# Altium footprint library parts.PCBLIB: 29 footprints (part 1 of 2)
Each footprint in its own frame and in the unit in brackets; x right, y up, seen from the top. Pads: shape width x height; smd on the part's side, far side on the other; paste and mask are expansions set on the pad; w line width, h text height; cw(c..) or ccw(c..) is an arc to the next point about the centre after c.
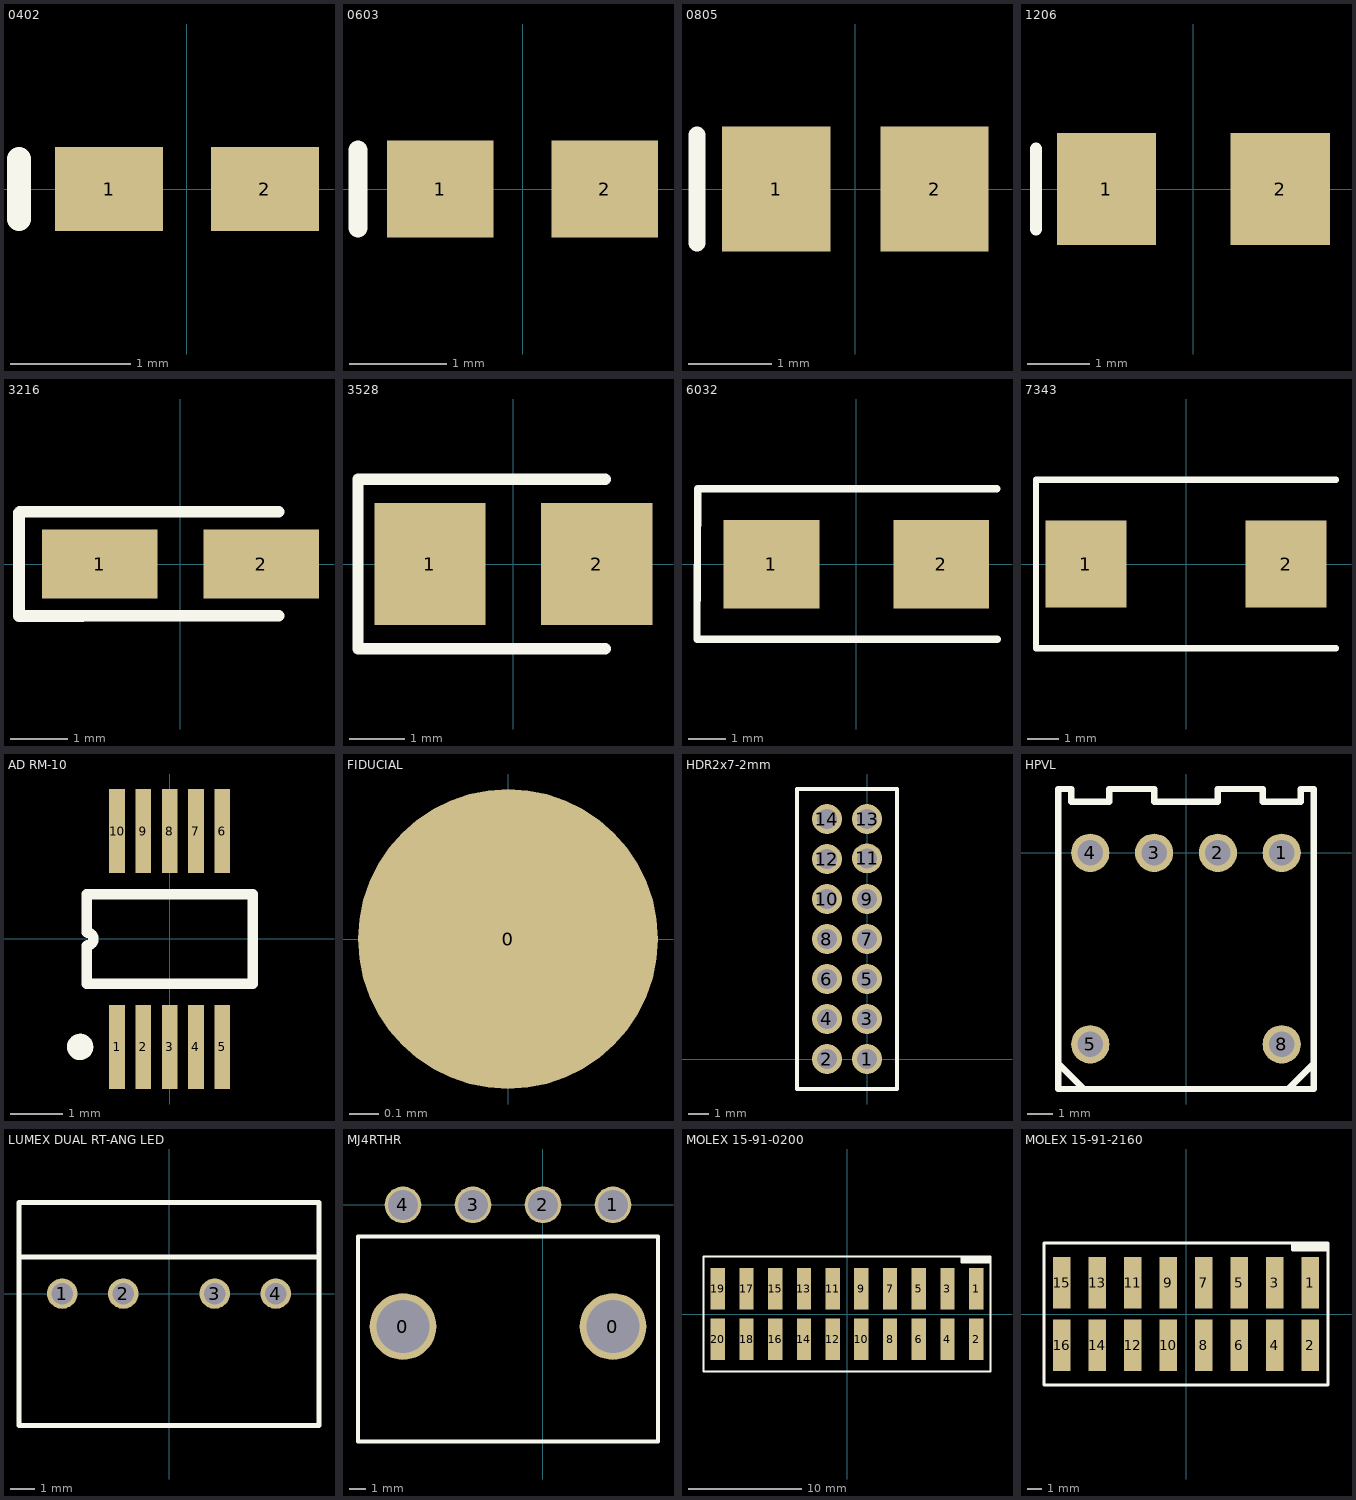
[diagram p0: the footprints below, top view; thin cyan lines are the x and y axes]

## 0402 [mm] "Standard-sized 0402 Passive"
pads (2):
  rect 0.9x0.7 smd: 1(-0.65,0) 2(0.65,0)
Top Overlay:
  lines w0.2: -1.4,-0.25 -1.4,0.25

## 0603 [mm] "Standard-sized 0603 Passive"
pads (2):
  rect 1.1x1 smd: 1(-0.85,0) 2(0.85,0)
Top Overlay:
  lines w0.2: -1.7,-0.4 -1.7,0.4

## 0805 [mm] "Standard-sized 0805 Passive"
pads (2):
  rect 1.3x1.5 smd: 1(-0.95,0) 2(0.95,0)
Top Overlay:
  lines w0.2: -1.9,-0.65 -1.9,0.65

## 1206 [mm] "Standard-sized 1206 Passive"
pads (2):
  rect 1.6x1.8 smd: 1(-1.4,0) 2(1.4,0)
Top Overlay:
  lines w0.2: -2.535,-0.65 -2.535,0.65

## 3216 [mm] "Standard-Sized 3216 Polarized Leadless Cap"
pads (2):
  rect 2x1.2 smd: 1(-1.4,0) 2(1.4,0)
Top Overlay:
  lines w0.2: -2.782,0.901 1.7,0.901 ; -1.7,-0.899 1.7,-0.899
  lines w0.203: -2.794,-0.899 -1.7,-0.899 ; -2.794,-0.889 -2.794,0.889 -2.782,0.901

## 3528 [mm] "Standard-Sized 3528 Polarized Leadless Cap"
pads (2):
  rect 2x2.2 smd: 1(-1.5,0) 2(1.5,0)
Top Overlay:
  lines w0.203: -2.794,-1.524 1.651,-1.524 ; -2.794,-1.5 -2.794,1.5 ; -2.794,1.524 1.651,1.524

## 6032 [mm] "Standard-Sized 7343 Polarized Leadless Cap"
pads (2):
  rect 2.6x2.4 smd: 1(-2.3,0) 2(2.3,0)
Top Overlay:
  lines w0.203: -4.318,-2.032 -4.304,2.046 3.8,2.046 ; -4.294,-2.032 3.81,-2.032

## 7343 [mm] "Standard-Sized 7343 Polarized Leadless Cap"
pads (2):
  rect 2.6x2.8 smd: 1(-3.2,0) 2(3.2,0)
Top Overlay:
  lines w0.203: 4.8,-2.7 -4.8,-2.7 -4.8,2.7 4.8,2.7

## AD RM-10 [mm] "Shrink Small Outline; 10 Leads; Body Width 3 mm; Pitch 0.5 mm"
height 1.1
pads (10):
  rect 0.3x1.6 smd: 1(-1,-2.05) 2(-0.5,-2.05) 3(0,-2.05) 4(0.5,-2.05) 5(1,-2.05) 6(1,2.05) 7(0.5,2.05) 8(0,2.05) 9(-0.5,2.05) 10(-1,2.05)
Top Overlay:
  circle w0.25: c-1.7,-2.05 r0.125
  lines w0.2: -1.575,-0.85 1.575,-0.85 1.575,0.85 -1.575,0.85 -1.575,0.125 cw(c-1.575,0) -1.575,-0.125 -1.575,-0.85

## FIDUCIAL [mil] "Fiducial footprint as recommended by PCBpro"
pads (1):
  round 40 smd paste-20 mask+30: 0(0,0)

## HDR2x7-2mm [mm]
pads (14):
  round 1.5 hole 1: 1(0,0) 2(-2,0) 3(0,2) 4(-2,2) 5(0,4) 6(-2,4) 7(0,6) 8(-2,6) 9(0,8) 10(-2,8) 11(0,10.033) 12(-2,10) 13(0,12) 14(-2,12)
Top Overlay:
  lines w0.2: -3.5,-1.5 1.5,-1.5 1.5,13.5 -3.5,13.5 -3.5,-1.5

## HPVL [mil]
pads (6):
  round 60 hole 40: 1(150,0) 2(50,0) 3(-50,0) 4(-150,0) 5(-150,-300) 8(150,-300)
Top Overlay:
  lines w10: -200,-340 -200,0 ; -200,-330 -160,-370 ; -200,-300 -200,-370 200,-370 200,-340 200,0 200,100 180,100 180,80 120,80 120,100 50,100 50,80 -50,80 -50,100 -120,100 -120,80 -180,80 -180,100 -200,100 -200,-10 ; 160,-370 200,-330

## LUMEX DUAL RT-ANG LED [mil] "Lumex Dual Right-angle LED holder for part SSF-LXH2100XX"
pads (4):
  round 50 hole 35: 1(-175.2,0) 2(-75,0) 3(75,0) 4(175.2,0)
Top Overlay:
  lines w8: -246.06,60 246.06,60 ; -246.06,-216.54 246.06,-216.54 246.06,149.61 -246.06,149.61 -246.06,-216.54

## MJ4RTHR [mm]
pads (6):
  round 4 hole 3.2: 0(-8.4,-7.3) 0(4.2,-7.3)
  round 2.2 hole 1.8: 1(4.2,0) 2(0,0) 3(-4.2,0) 4(-8.4,0)
Top Overlay:
  lines w0.254: -11.1,-14.2 -11.1,-1.9 6.9,-1.9 6.9,-14.2 -11.1,-14.2

## MOLEX 15-91-0200 [mm] "SMT 100-mil pitch 20-pin dual-row header"
pads (20):
  rect 1.27x3.68 smd: 1(11.43,2.22) 2(11.43,-2.22) 3(8.89,2.22) 4(8.89,-2.22) 5(6.35,2.22) 6(6.35,-2.22) 7(3.81,2.22) 8(3.81,-2.22) 9(1.27,2.22) 10(1.27,-2.22) 11(-1.27,2.22) 12(-1.27,-2.22) 13(-3.81,2.22) 14(-3.81,-2.22) 15(-6.35,2.22) 16(-6.35,-2.22) 17(-8.89,2.22) 18(-8.89,-2.22) 19(-11.43,2.22) 20(-11.43,-2.22)
Top Overlay:
  lines w0.203: 10.16,5.08 10.16,4.572 12.7,4.572 ; 10.287,4.699 12.7,4.699 ; 12.7,4.826 10.16,4.826 10.287,4.953 12.7,4.953 ; -12.7,-5.08 -12.7,5.08 12.7,5.08 12.7,-5.08 -12.7,-5.08

## MOLEX 15-91-2160 [mm] "SMT 100-mil pitch 16 -pin dual-row header"
pads (16):
  rect 1.27x3.68 smd: 1(8.89,2.22) 2(8.89,-2.22) 3(6.35,2.22) 4(6.35,-2.22) 5(3.81,2.22) 6(3.81,-2.22) 7(1.27,2.22) 8(1.27,-2.22) 9(-1.27,2.22) 10(-1.27,-2.22) 11(-3.81,2.22) 12(-3.81,-2.22) 13(-6.35,2.22) 14(-6.35,-2.22) 15(-8.89,2.22) 16(-8.89,-2.22)
Top Overlay:
  lines w0.203: 7.62,5.08 7.62,4.572 10.16,4.572 ; 7.747,4.699 10.16,4.699 ; 10.16,4.826 7.62,4.826 7.747,4.953 10.16,4.953 ; -10.16,-5.08 -10.16,5.08 10.16,5.08 10.16,-5.08 -10.16,-5.08